# EAGLE library part RFM98 (library Mine)
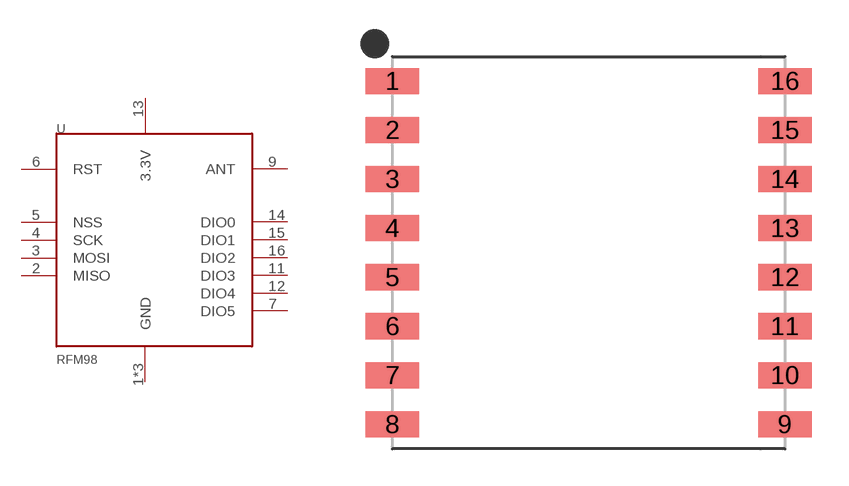
[diagram p71: symbol with the pads of RFM97; footprint RFM97]

Designator prefix -

## RFM98  [RFM97]
1  GND  sup
2  MISO  out
3  MOSI  in
4  SCK  in
5  NSS  in
6  RST  in
7  DIO5
8  GND  sup
9  ANT
10  GND  sup
11  DIO3
12  DIO4
13  3.3V  sup
14  DIO0
15  DIO1
16  DIO2

## Footprint RFM97 (pad centres in mm)
smd 2.184 x 1.067: 1 0,0; 2 0,-2; 3 0,-4; 4 0,-6; 5 0,-8; 6 0,-10; 7 0,-12; 8 0,-14; 9 16,-14; 10 16,-12; 11 16,-10; 12 16,-8; 13 16,-6; 14 16,-4; 15 16,-2; 16 16,0